# Altium footprint library GPS.PcbLib: 1 footprints
Each footprint in its own frame and in the unit in brackets; x right, y up, seen from the top. Pads: shape width x height; smd on the part's side, far side on the other; paste and mask are expansions set on the pad; w line width, h text height; cw(c..) or ccw(c..) is an arc to the next point about the centre after c.
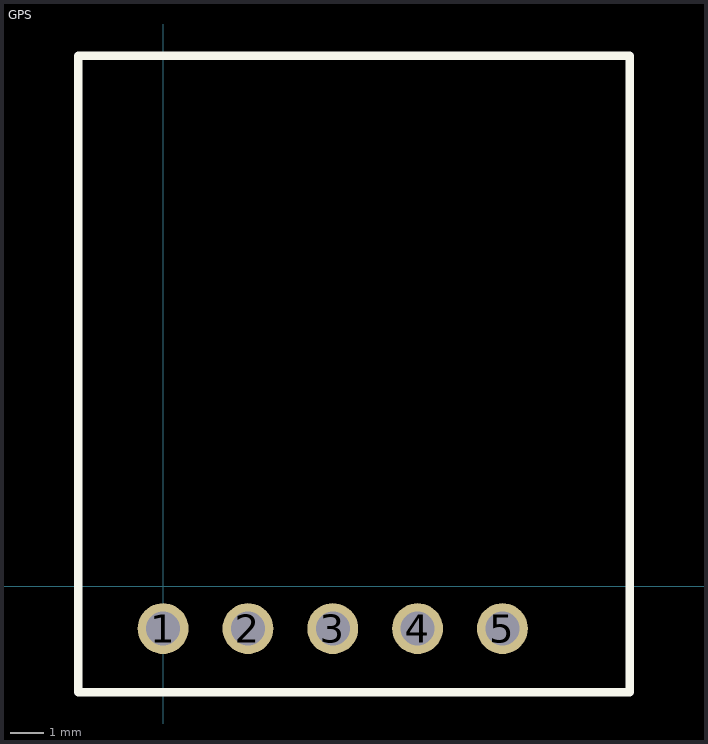
[diagram p0: the footprint, top view; thin cyan lines are the x and y axes]

## GPS [mil]
pads (5):
  round 60 hole 40: 1(0,-50) 2(100,-50) 3(200,-50) 4(300,-50) 5(400,-50)
Top Overlay:
  lines w10: -100,-125 -100,625 550,625 550,437.5 550,62.5 550,-125 -100,-125
3D body "ATGM336H.STEP": height 78.74, standoff -165.35, extent -66.63,-114.32 545.34,595.13